# EAGLE library part 382580-1 (library con-amp_edit)
SOCKET SIMM II CL DUAL READOUT Source: ENG_CD_382580_E.pdf
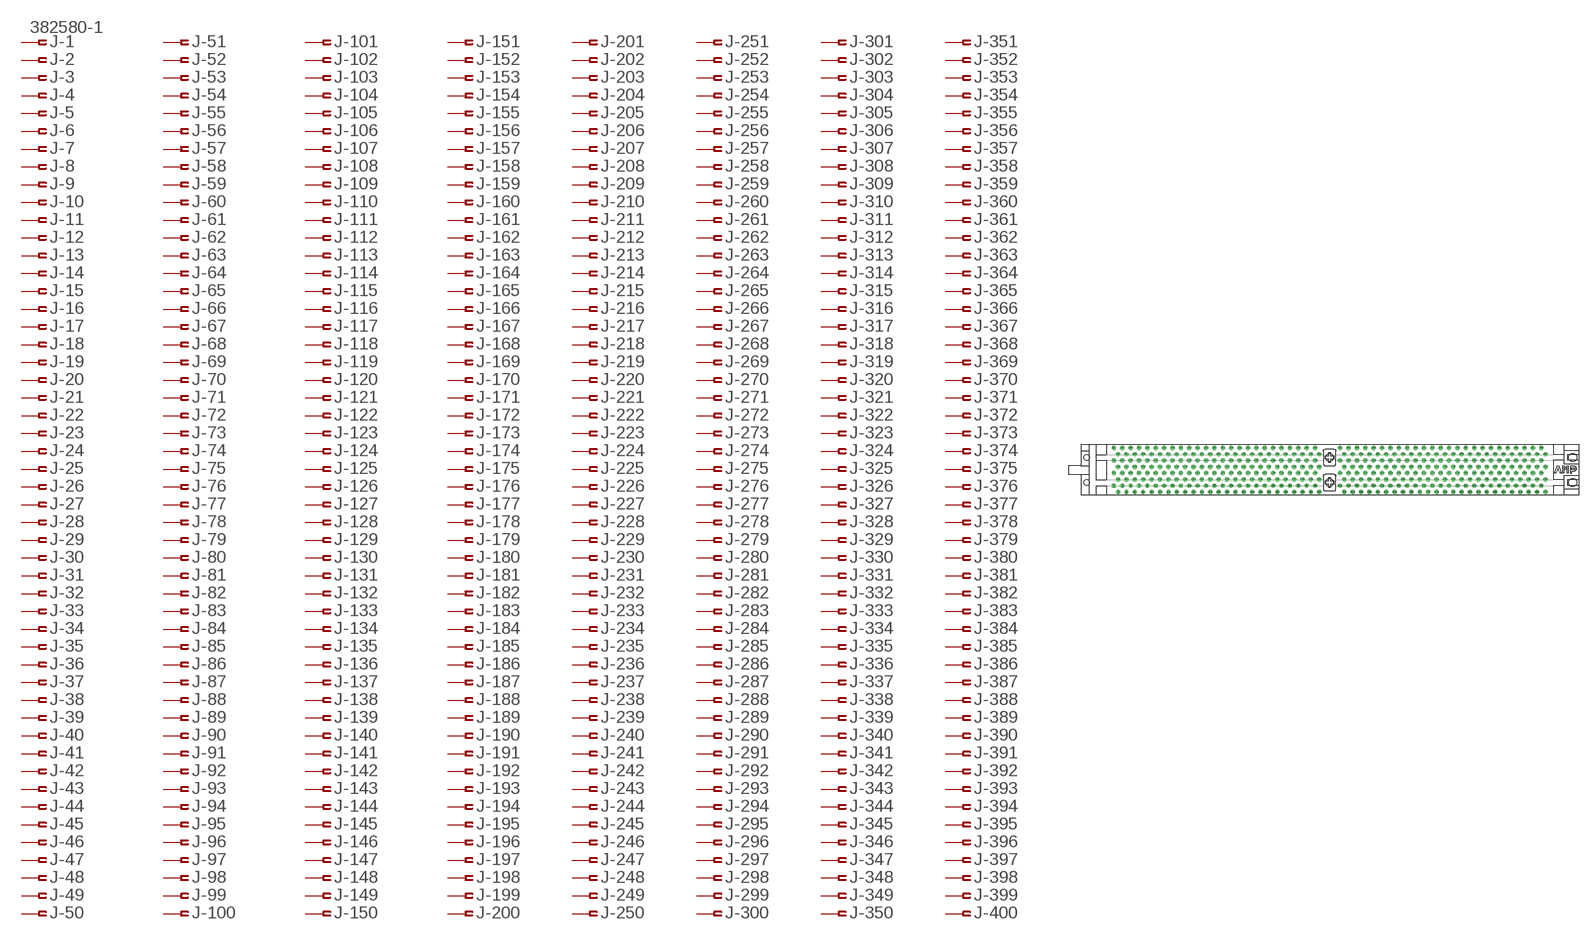
[diagram p175: symbol with the pads of 382580-1; footprint 382580-1]

Designator prefix J; gates -1=PIN-FV -2=PIN-F -3=PIN-F -4=PIN-F -5=PIN-F -6=PIN-F -7=PIN-F -8=PIN-F -9=PIN-F -10=PIN-F -11=PIN-F -12=PIN-F -13=PIN-F -14=PIN-F -15=PIN-F -16=PIN-F -17=PIN-F -18=PIN-F -19=PIN-F -20=PIN-F -21=PIN-F -22=PIN-F -23=PIN-F -24=PIN-F -25=PIN-F -26=PIN-F -27=PIN-F -28=PIN-F -29=PIN-F -30=PIN-F -31=PIN-F -32=PIN-F -33=PIN-F -34=PIN-F -35=PIN-F -36=PIN-F -37=PIN-F -38=PIN-F -39=PIN-F -40=PIN-F -41=PIN-F -42=PIN-F -43=PIN-F -44=PIN-F -45=PIN-F -46=PIN-F -47=PIN-F -48=PIN-F -49=PIN-F -50=PIN-F -51=PIN-F -52=PIN-F -53=PIN-F -54=PIN-F -55=PIN-F -56=PIN-F -57=PIN-F -58=PIN-F -59=PIN-F -60=PIN-F -61=PIN-F -62=PIN-F -63=PIN-F -64=PIN-F -65=PIN-F -66=PIN-F -67=PIN-F -68=PIN-F -69=PIN-F -70=PIN-F -71=PIN-F -72=PIN-F -73=PIN-F -74=PIN-F -75=PIN-F -76=PIN-F -77=PIN-F -78=PIN-F -79=PIN-F -80=PIN-F -81=PIN-F -82=PIN-F -83=PIN-F -84=PIN-F -85=PIN-F -86=PIN-F -87=PIN-F -88=PIN-F -89=PIN-F -90=PIN-F -91=PIN-F -92=PIN-F -93=PIN-F -94=PIN-F -95=PIN-F -96=PIN-F -97=PIN-F -98=PIN-F -99=PIN-F -100=PIN-F -101=PIN-F -102=PIN-F -103=PIN-F -104=PIN-F -105=PIN-F -106=PIN-F -107=PIN-F -108=PIN-F -109=PIN-F -110=PIN-F -111=PIN-F -112=PIN-F -113=PIN-F -114=PIN-F -115=PIN-F -116=PIN-F -117=PIN-F -118=PIN-F -119=PIN-F -120=PIN-F -121=PIN-F -122=PIN-F -123=PIN-F -124=PIN-F -125=PIN-F -126=PIN-F -127=PIN-F -128=PIN-F -129=PIN-F -130=PIN-F -131=PIN-F -132=PIN-F -133=PIN-F -134=PIN-F -135=PIN-F -136=PIN-F -137=PIN-F -138=PIN-F -139=PIN-F -140=PIN-F -141=PIN-F -142=PIN-F -143=PIN-F -144=PIN-F -145=PIN-F -146=PIN-F -147=PIN-F -148=PIN-F -149=PIN-F -150=PIN-F -151=PIN-F -152=PIN-F -153=PIN-F -154=PIN-F -155=PIN-F -156=PIN-F -157=PIN-F -158=PIN-F -159=PIN-F -160=PIN-F -161=PIN-F -162=PIN-F -163=PIN-F -164=PIN-F -165=PIN-F -166=PIN-F -167=PIN-F -168=PIN-F -169=PIN-F -170=PIN-F -171=PIN-F -172=PIN-F -173=PIN-F -174=PIN-F -175=PIN-F -176=PIN-F -177=PIN-F -178=PIN-F -179=PIN-F -180=PIN-F -181=PIN-F -182=PIN-F -183=PIN-F -184=PIN-F -185=PIN-F -186=PIN-F -187=PIN-F -188=PIN-F -189=PIN-F -190=PIN-F -191=PIN-F -192=PIN-F -193=PIN-F -194=PIN-F -195=PIN-F -196=PIN-F -197=PIN-F -198=PIN-F -199=PIN-F -200=PIN-F -201=PIN-F -202=PIN-F -203=PIN-F -204=PIN-F -205=PIN-F -206=PIN-F -207=PIN-F -208=PIN-F -209=PIN-F -210=PIN-F -211=PIN-F -212=PIN-F -213=PIN-F -214=PIN-F -215=PIN-F -216=PIN-F -217=PIN-F -218=PIN-F -219=PIN-F -220=PIN-F -221=PIN-F -222=PIN-F -223=PIN-F -224=PIN-F -225=PIN-F -226=PIN-F -227=PIN-F -228=PIN-F -229=PIN-F -230=PIN-F -231=PIN-F -232=PIN-F -233=PIN-F -234=PIN-F -235=PIN-F -236=PIN-F -237=PIN-F -238=PIN-F -239=PIN-F -240=PIN-F -241=PIN-F -242=PIN-F -243=PIN-F -244=PIN-F -245=PIN-F -246=PIN-F -247=PIN-F -248=PIN-F -249=PIN-F -250=PIN-F -251=PIN-F -252=PIN-F -253=PIN-F -254=PIN-F -255=PIN-F -256=PIN-F -257=PIN-F -258=PIN-F -259=PIN-F -260=PIN-F -261=PIN-F -262=PIN-F -263=PIN-F -264=PIN-F -265=PIN-F -266=PIN-F -267=PIN-F -268=PIN-F -269=PIN-F -270=PIN-F -271=PIN-F -272=PIN-F -273=PIN-F -274=PIN-F -275=PIN-F -276=PIN-F -277=PIN-F -278=PIN-F -279=PIN-F -280=PIN-F -281=PIN-F -282=PIN-F -283=PIN-F -284=PIN-F -285=PIN-F -286=PIN-F -287=PIN-F -288=PIN-F -289=PIN-F -290=PIN-F -291=PIN-F -292=PIN-F -293=PIN-F -294=PIN-F -295=PIN-F -296=PIN-F -297=PIN-F -298=PIN-F -299=PIN-F -300=PIN-F -301=PIN-F -302=PIN-F -303=PIN-F -304=PIN-F -305=PIN-F -306=PIN-F -307=PIN-F -308=PIN-F -309=PIN-F -310=PIN-F -311=PIN-F -312=PIN-F -313=PIN-F -314=PIN-F -315=PIN-F -316=PIN-F -317=PIN-F -318=PIN-F -319=PIN-F -320=PIN-F -321=PIN-F -322=PIN-F -323=PIN-F -324=PIN-F -325=PIN-F -326=PIN-F -327=PIN-F -328=PIN-F -329=PIN-F -330=PIN-F -331=PIN-F -332=PIN-F -333=PIN-F -334=PIN-F -335=PIN-F -336=PIN-F -337=PIN-F -338=PIN-F -339=PIN-F -340=PIN-F -341=PIN-F -342=PIN-F -343=PIN-F -344=PIN-F -345=PIN-F -346=PIN-F -347=PIN-F -348=PIN-F -349=PIN-F -350=PIN-F -351=PIN-F -352=PIN-F -353=PIN-F -354=PIN-F -355=PIN-F -356=PIN-F -357=PIN-F -358=PIN-F -359=PIN-F -360=PIN-F -361=PIN-F -362=PIN-F -363=PIN-F -364=PIN-F -365=PIN-F -366=PIN-F -367=PIN-F -368=PIN-F -369=PIN-F -370=PIN-F -371=PIN-F -372=PIN-F -373=PIN-F -374=PIN-F -375=PIN-F -376=PIN-F -377=PIN-F -378=PIN-F -379=PIN-F -380=PIN-F -381=PIN-F -382=PIN-F -383=PIN-F -384=PIN-F -385=PIN-F -386=PIN-F -387=PIN-F -388=PIN-F -389=PIN-F -390=PIN-F -391=PIN-F -392=PIN-F -393=PIN-F -394=PIN-F -395=PIN-F -396=PIN-F -397=PIN-F -398=PIN-F -399=PIN-F -400=PIN-F

## 382580-1  [382580-1]
1  -1:1  pas
2  -2:1  pas
3  -3:1  pas
4  -4:1  pas
5  -5:1  pas
6  -6:1  pas
7  -7:1  pas
8  -8:1  pas
9  -9:1  pas
10  -10:1  pas
11  -11:1  pas
12  -12:1  pas
13  -13:1  pas
14  -14:1  pas
15  -15:1  pas
16  -16:1  pas
17  -17:1  pas
18  -18:1  pas
19  -19:1  pas
20  -20:1  pas
21  -21:1  pas
22  -22:1  pas
23  -23:1  pas
24  -24:1  pas
25  -25:1  pas
26  -26:1  pas
27  -27:1  pas
28  -28:1  pas
29  -29:1  pas
30  -30:1  pas
31  -31:1  pas
32  -32:1  pas
33  -33:1  pas
34  -34:1  pas
35  -35:1  pas
36  -36:1  pas
37  -37:1  pas
38  -38:1  pas
39  -39:1  pas
40  -40:1  pas
41  -41:1  pas
42  -42:1  pas
43  -43:1  pas
44  -44:1  pas
45  -45:1  pas
46  -46:1  pas
47  -47:1  pas
48  -48:1  pas
49  -49:1  pas
50  -50:1  pas
51  -51:1  pas
52  -52:1  pas
53  -53:1  pas
54  -54:1  pas
55  -55:1  pas
56  -56:1  pas
57  -57:1  pas
58  -58:1  pas
59  -59:1  pas
60  -60:1  pas
61  -61:1  pas
62  -62:1  pas
63  -63:1  pas
64  -64:1  pas
65  -65:1  pas
66  -66:1  pas
67  -67:1  pas
68  -68:1  pas
69  -69:1  pas
70  -70:1  pas
71  -71:1  pas
72  -72:1  pas
73  -73:1  pas
74  -74:1  pas
75  -75:1  pas
76  -76:1  pas
77  -77:1  pas
78  -78:1  pas
79  -79:1  pas
80  -80:1  pas
81  -81:1  pas
82  -82:1  pas
83  -83:1  pas
84  -84:1  pas
85  -85:1  pas
86  -86:1  pas
87  -87:1  pas
88  -88:1  pas
89  -89:1  pas
90  -90:1  pas
91  -91:1  pas
92  -92:1  pas
93  -93:1  pas
94  -94:1  pas
95  -95:1  pas
96  -96:1  pas
97  -97:1  pas
98  -98:1  pas
99  -99:1  pas
100  -100:1  pas
101  -101:1  pas
102  -102:1  pas
103  -103:1  pas
104  -104:1  pas
105  -105:1  pas
106  -106:1  pas
107  -107:1  pas
108  -108:1  pas
109  -109:1  pas
110  -110:1  pas
111  -111:1  pas
112  -112:1  pas
113  -113:1  pas
114  -114:1  pas
115  -115:1  pas
116  -116:1  pas
117  -117:1  pas
118  -118:1  pas
119  -119:1  pas
120  -120:1  pas
121  -121:1  pas
122  -122:1  pas
123  -123:1  pas
124  -124:1  pas
125  -125:1  pas
126  -126:1  pas
127  -127:1  pas
128  -128:1  pas
129  -129:1  pas
130  -130:1  pas
131  -131:1  pas
132  -132:1  pas
133  -133:1  pas
134  -134:1  pas
135  -135:1  pas
136  -136:1  pas
137  -137:1  pas
138  -138:1  pas
139  -139:1  pas
140  -140:1  pas
141  -141:1  pas
142  -142:1  pas
143  -143:1  pas
144  -144:1  pas
145  -145:1  pas
146  -146:1  pas
147  -147:1  pas
148  -148:1  pas
149  -149:1  pas
150  -150:1  pas
151  -151:1  pas
152  -152:1  pas
153  -153:1  pas
154  -154:1  pas
155  -155:1  pas
156  -156:1  pas
157  -157:1  pas
158  -158:1  pas
159  -159:1  pas
160  -160:1  pas
161  -161:1  pas
162  -162:1  pas
163  -163:1  pas
164  -164:1  pas
165  -165:1  pas
166  -166:1  pas
167  -167:1  pas
168  -168:1  pas
169  -169:1  pas
170  -170:1  pas
171  -171:1  pas
172  -172:1  pas
173  -173:1  pas
174  -174:1  pas
175  -175:1  pas
176  -176:1  pas
177  -177:1  pas
178  -178:1  pas
179  -179:1  pas
180  -180:1  pas
181  -181:1  pas
182  -182:1  pas
183  -183:1  pas
184  -184:1  pas
185  -185:1  pas
186  -186:1  pas
187  -187:1  pas
188  -188:1  pas
189  -189:1  pas
190  -190:1  pas
191  -191:1  pas
192  -192:1  pas
193  -193:1  pas
194  -194:1  pas
195  -195:1  pas
196  -196:1  pas
197  -197:1  pas
198  -198:1  pas
199  -199:1  pas
200  -200:1  pas
201  -201:1  pas
202  -202:1  pas
203  -203:1  pas
204  -204:1  pas
205  -205:1  pas
206  -206:1  pas
207  -207:1  pas
208  -208:1  pas
209  -209:1  pas
210  -210:1  pas
211  -211:1  pas
212  -212:1  pas
213  -213:1  pas
214  -214:1  pas
215  -215:1  pas
216  -216:1  pas
217  -217:1  pas
218  -218:1  pas
219  -219:1  pas
220  -220:1  pas
221  -221:1  pas
222  -222:1  pas
223  -223:1  pas
224  -224:1  pas
225  -225:1  pas
226  -226:1  pas
227  -227:1  pas
228  -228:1  pas
229  -229:1  pas
230  -230:1  pas
231  -231:1  pas
232  -232:1  pas
233  -233:1  pas
234  -234:1  pas
235  -235:1  pas
236  -236:1  pas
237  -237:1  pas
238  -238:1  pas
239  -239:1  pas
240  -240:1  pas
241  -241:1  pas
242  -242:1  pas
243  -243:1  pas
244  -244:1  pas
245  -245:1  pas
246  -246:1  pas
247  -247:1  pas
248  -248:1  pas
249  -249:1  pas
250  -250:1  pas
251  -251:1  pas
252  -252:1  pas
253  -253:1  pas
254  -254:1  pas
255  -255:1  pas
256  -256:1  pas
257  -257:1  pas
258  -258:1  pas
259  -259:1  pas
260  -260:1  pas
261  -261:1  pas
262  -262:1  pas
263  -263:1  pas
264  -264:1  pas
265  -265:1  pas
266  -266:1  pas
267  -267:1  pas
268  -268:1  pas
269  -269:1  pas
270  -270:1  pas
271  -271:1  pas
272  -272:1  pas
273  -273:1  pas
274  -274:1  pas
275  -275:1  pas
276  -276:1  pas
277  -277:1  pas
278  -278:1  pas
279  -279:1  pas
280  -280:1  pas
281  -281:1  pas
282  -282:1  pas
283  -283:1  pas
284  -284:1  pas
285  -285:1  pas
286  -286:1  pas
287  -287:1  pas
288  -288:1  pas
289  -289:1  pas
290  -290:1  pas
291  -291:1  pas
292  -292:1  pas
293  -293:1  pas
294  -294:1  pas
295  -295:1  pas
296  -296:1  pas
297  -297:1  pas
298  -298:1  pas
299  -299:1  pas
300  -300:1  pas
301  -301:1  pas
302  -302:1  pas
303  -303:1  pas
304  -304:1  pas
305  -305:1  pas
306  -306:1  pas
307  -307:1  pas
308  -308:1  pas
309  -309:1  pas
310  -310:1  pas
311  -311:1  pas
312  -312:1  pas
313  -313:1  pas
314  -314:1  pas
315  -315:1  pas
316  -316:1  pas
317  -317:1  pas
318  -318:1  pas
319  -319:1  pas
320  -320:1  pas
321  -321:1  pas
322  -322:1  pas
323  -323:1  pas
324  -324:1  pas
325  -325:1  pas
326  -326:1  pas
327  -327:1  pas
328  -328:1  pas
329  -329:1  pas
330  -330:1  pas
331  -331:1  pas
332  -332:1  pas
333  -333:1  pas
334  -334:1  pas
335  -335:1  pas
336  -336:1  pas
337  -337:1  pas
338  -338:1  pas
339  -339:1  pas
340  -340:1  pas
341  -341:1  pas
342  -342:1  pas
343  -343:1  pas
344  -344:1  pas
345  -345:1  pas
346  -346:1  pas
347  -347:1  pas
348  -348:1  pas
349  -349:1  pas
350  -350:1  pas
351  -351:1  pas
352  -352:1  pas
353  -353:1  pas
354  -354:1  pas
355  -355:1  pas
356  -356:1  pas
357  -357:1  pas
358  -358:1  pas
359  -359:1  pas
360  -360:1  pas
361  -361:1  pas
362  -362:1  pas
363  -363:1  pas
364  -364:1  pas
365  -365:1  pas
366  -366:1  pas
367  -367:1  pas
368  -368:1  pas
369  -369:1  pas
370  -370:1  pas
371  -371:1  pas
372  -372:1  pas
373  -373:1  pas
374  -374:1  pas
375  -375:1  pas
376  -376:1  pas
377  -377:1  pas
378  -378:1  pas
379  -379:1  pas
380  -380:1  pas
381  -381:1  pas
382  -382:1  pas
383  -383:1  pas
384  -384:1  pas
385  -385:1  pas
386  -386:1  pas
387  -387:1  pas
388  -388:1  pas
389  -389:1  pas
390  -390:1  pas
391  -391:1  pas
392  -392:1  pas
393  -393:1  pas
394  -394:1  pas
395  -395:1  pas
396  -396:1  pas
397  -397:1  pas
398  -398:1  pas
399  -399:1  pas
400  -400:1  pas

## Footprint 382580-1 (pad centres in mm)
DIMM I Dual Read Out
drill 0.813 square: 1 -65.405,-4.763
drill 0.813 octagon: 2 -64.135,-6.668; 3 -62.865,-4.763; 4 -61.595,-6.668; 5 -60.325,-4.763; 6 -59.055,-6.668; 7 -57.785,-4.763; 8 -56.515,-6.668; 9 -55.245,-4.763; 10 -53.975,-6.668; 11 -52.705,-4.763; 12 -51.435,-6.668; 13 -50.165,-4.763; 14 -48.895,-6.668; 15 -47.625,-4.763; 16 -46.355,-6.668; 17 -45.085,-4.763; 18 -43.815,-6.668; 19 -42.545,-4.763; 20 -41.275,-6.668; 21 -40.005,-4.763; 22 -38.735,-6.668; 23 -37.465,-4.763; 24 -36.195,-6.668; 25 -34.925,-4.763; 26 -33.655,-6.668; 27 -32.385,-4.763; 28 -31.115,-6.668; 29 -29.845,-4.763; 30 -28.575,-6.668; 31 -27.305,-4.763; 32 -26.035,-6.668; 33 -24.765,-4.763; 34 -23.495,-6.668; 35 -22.225,-4.763; 36 -20.955,-6.668; 37 -19.685,-4.763; 38 -18.415,-6.668; 39 -17.145,-4.763; 40 -15.875,-6.668; 41 -14.605,-4.763; 42 -13.335,-6.668; 43 -12.065,-4.763; 44 -10.795,-6.668; 45 -9.525,-4.763; 46 -8.255,-6.668; 47 -6.985,-4.763; 48 -5.715,-6.668; 49 -4.445,-4.763; 50 -3.175,-6.668; 51 3.175,-4.763; 52 4.445,-6.668; 53 5.715,-4.763; 54 6.985,-6.668; 55 8.255,-4.763; 56 9.525,-6.668; 57 10.795,-4.763; 58 12.065,-6.668; 59 13.335,-4.763; 60 14.605,-6.668; 61 15.875,-4.763; 62 17.145,-6.668; 63 18.415,-4.763; 64 19.685,-6.668; 65 20.955,-4.763; 66 22.225,-6.668; 67 23.495,-4.763; 68 24.765,-6.668; 69 26.035,-4.763; 70 27.305,-6.668; 71 28.575,-4.763; 72 29.845,-6.668; 73 31.115,-4.763; 74 32.385,-6.668; 75 33.655,-4.763; 76 34.925,-6.668; 77 36.195,-4.763; 78 37.465,-6.668; 79 38.735,-4.763; 80 40.005,-6.668; 81 41.275,-4.763; 82 42.545,-6.668; 83 43.815,-4.763; 84 45.085,-6.668; 85 46.355,-4.763; 86 47.625,-6.668; 87 48.895,-4.763; 88 50.165,-6.668; 89 51.435,-4.763; 90 52.705,-6.668; 91 53.975,-4.763; 92 55.245,-6.668; 93 56.515,-4.763; 94 57.785,-6.668; 95 59.055,-4.763; 96 60.325,-6.668; 97 61.595,-4.763; 98 62.865,-6.668; 99 64.135,-4.763; 100 65.405,-6.668; 101 -65.405,-0.953; 102 -64.135,-2.857; 103 -62.865,-0.953; 104 -61.595,-2.857; 105 -60.325,-0.953; 106 -59.055,-2.857; 107 -57.785,-0.953; 108 -56.515,-2.857; 109 -55.245,-0.953; 110 -53.975,-2.857; 111 -52.705,-0.953; 112 -51.435,-2.857; 113 -50.165,-0.953; 114 -48.895,-2.857; 115 -47.625,-0.953; 116 -46.355,-2.857; 117 -45.085,-0.953; 118 -43.815,-2.857; 119 -42.545,-0.953; 120 -41.275,-2.857; 121 -40.005,-0.953; 122 -38.735,-2.857; 123 -37.465,-0.953; 124 -36.195,-2.857; 125 -34.925,-0.953; 126 -33.655,-2.857; 127 -32.385,-0.953; 128 -31.115,-2.857; 129 -29.845,-0.953; 130 -28.575,-2.857; 131 -27.305,-0.953; 132 -26.035,-2.857; 133 -24.765,-0.953; 134 -23.495,-2.857; 135 -22.225,-0.953; 136 -20.955,-2.857; 137 -19.685,-0.953; 138 -18.415,-2.857; 139 -17.145,-0.953; 140 -15.875,-2.857; 141 -14.605,-0.953; 142 -13.335,-2.857; 143 -12.065,-0.953; 144 -10.795,-2.857; 145 -9.525,-0.953; 146 -8.255,-2.857; 147 -6.985,-0.953; 148 -5.715,-2.857; 149 -4.445,-0.953; 150 -3.175,-2.857; 151 3.175,-0.953; 152 4.445,-2.857; 153 5.715,-0.953; 154 6.985,-2.857; 155 8.255,-0.953; 156 9.525,-2.857; 157 10.795,-0.953; 158 12.065,-2.857; 159 13.335,-0.953; 160 14.605,-2.857; 161 15.875,-0.953; 162 17.145,-2.857; 163 18.415,-0.953; 164 19.685,-2.857; 165 20.955,-0.953; 166 22.225,-2.857; 167 23.495,-0.953; 168 24.765,-2.857; 169 26.035,-0.953; 170 27.305,-2.857; 171 28.575,-0.953; 172 29.845,-2.857; 173 31.115,-0.953; 174 32.385,-2.857; 175 33.655,-0.953; 176 34.925,-2.857; 177 36.195,-0.953; 178 37.465,-2.857; 179 38.735,-0.953; 180 40.005,-2.857; 181 41.275,-0.953; 182 42.545,-2.857; 183 43.815,-0.953; 184 45.085,-2.857; 185 46.355,-0.953; 186 47.625,-2.857; 187 48.895,-0.953; 188 50.165,-2.857; 189 51.435,-0.953; 190 52.705,-2.857; 191 53.975,-0.953; 192 55.245,-2.857; 193 56.515,-0.953; 194 57.785,-2.857; 195 59.055,-0.953; 196 60.325,-2.857; 197 61.595,-0.953; 198 62.865,-2.857; 199 64.135,-0.953; 200 65.405,-2.857; 201 -65.405,2.857; 202 -64.135,0.953; 203 -62.865,2.857; 204 -61.595,0.953; 205 -60.325,2.857; 206 -59.055,0.953; 207 -57.785,2.857; 208 -56.515,0.953; 209 -55.245,2.857; 210 -53.975,0.953; 211 -52.705,2.857; 212 -51.435,0.953; 213 -50.165,2.857; 214 -48.895,0.953; 215 -47.625,2.857; 216 -46.355,0.953; 217 -45.085,2.857; 218 -43.815,0.953; 219 -42.545,2.857; 220 -41.275,0.953; 221 -40.005,2.857; 222 -38.735,0.953; 223 -37.465,2.857; 224 -36.195,0.953; 225 -34.925,2.857; 226 -33.655,0.953; 227 -32.385,2.857; 228 -31.115,0.953; 229 -29.845,2.857; 230 -28.575,0.953; 231 -27.305,2.857; 232 -26.035,0.953; 233 -24.765,2.857; 234 -23.495,0.953; 235 -22.225,2.857; 236 -20.955,0.953; 237 -19.685,2.857; 238 -18.415,0.953; 239 -17.145,2.857; 240 -15.875,0.953; 241 -14.605,2.857; 242 -13.335,0.953; 243 -12.065,2.857; 244 -10.795,0.953; 245 -9.525,2.857; 246 -8.255,0.953; 247 -6.985,2.857; 248 -5.715,0.953; 249 -4.445,2.857; 250 -3.175,0.953; 251 3.175,2.857; 252 4.445,0.953; 253 5.715,2.857; 254 6.985,0.953; 255 8.255,2.857; 256 9.525,0.953; 257 10.795,2.857; 258 12.065,0.953; 259 13.335,2.857; 260 14.605,0.953; 261 15.875,2.857; 262 17.145,0.953; 263 18.415,2.857; 264 19.685,0.953; 265 20.955,2.857; 266 22.225,0.953; 267 23.495,2.857; 268 24.765,0.953; 269 26.035,2.857; 270 27.305,0.953; 271 28.575,2.857; 272 29.845,0.953; 273 31.115,2.857; 274 32.385,0.953; 275 33.655,2.857; 276 34.925,0.953; 277 36.195,2.857; 278 37.465,0.953; 279 38.735,2.857; 280 40.005,0.953; 281 41.275,2.857; 282 42.545,0.953; 283 43.815,2.857; 284 45.085,0.953; 285 46.355,2.857; 286 47.625,0.953; 287 48.895,2.857; 288 50.165,0.953; 289 51.435,2.857; 290 52.705,0.953; 291 53.975,2.857; 292 55.245,0.953; 293 56.515,2.857; 294 57.785,0.953; 295 59.055,2.857; 296 60.325,0.953; 297 61.595,2.857; 298 62.865,0.953; 299 64.135,2.857; 300 65.405,0.953; 301 -65.405,6.668; 302 -64.135,4.763; 303 -62.865,6.668; 304 -61.595,4.763; 305 -60.325,6.668; 306 -59.055,4.763; 307 -57.785,6.668; 308 -56.515,4.763; 309 -55.245,6.668; 310 -53.975,4.763; 311 -52.705,6.668; 312 -51.435,4.763; 313 -50.165,6.668; 314 -48.895,4.763; 315 -47.625,6.668; 316 -46.355,4.763; 317 -45.085,6.668; 318 -43.815,4.763; 319 -42.545,6.668; 320 -41.275,4.763; 321 -40.005,6.668; 322 -38.735,4.763; 323 -37.465,6.668; 324 -36.195,4.763; 325 -34.925,6.668; 326 -33.655,4.763; 327 -32.385,6.668; 328 -31.115,4.763; 329 -29.845,6.668; 330 -28.575,4.763; 331 -27.305,6.668; 332 -26.035,4.763; 333 -24.765,6.668; 334 -23.495,4.763; 335 -22.225,6.668; 336 -20.955,4.763; 337 -19.685,6.668; 338 -18.415,4.763; 339 -17.145,6.668; 340 -15.875,4.763; 341 -14.605,6.668; 342 -13.335,4.763; 343 -12.065,6.668; 344 -10.795,4.763; 345 -9.525,6.668; 346 -8.255,4.763; 347 -6.985,6.668; 348 -5.715,4.763; 349 -4.445,6.668; 350 -3.175,4.763; 351 3.175,6.668; 352 4.445,4.763; 353 5.715,6.668; 354 6.985,4.763; 355 8.255,6.668; 356 9.525,4.763; 357 10.795,6.668; 358 12.065,4.763; 359 13.335,6.668; 360 14.605,4.763; 361 15.875,6.668; 362 17.145,4.763; 363 18.415,6.668; 364 19.685,4.763; 365 20.955,6.668; 366 22.225,4.763; 367 23.495,6.668; 368 24.765,4.763; 369 26.035,6.668; 370 27.305,4.763; 371 28.575,6.668; 372 29.845,4.763; 373 31.115,6.668; 374 32.385,4.763; 375 33.655,6.668; 376 34.925,4.763; 377 36.195,6.668; 378 37.465,4.763; 379 38.735,6.668; 380 40.005,4.763; 381 41.275,6.668; 382 42.545,4.763; 383 43.815,6.668; 384 45.085,4.763; 385 46.355,6.668; 386 47.625,4.763; 387 48.895,6.668; 388 50.165,4.763; 389 51.435,6.668; 390 52.705,4.763; 391 53.975,6.668; 392 55.245,4.763; 393 56.515,6.668; 394 57.785,4.763; 395 59.055,6.668; 396 60.325,4.763; 397 61.595,6.668; 398 62.865,4.763; 399 64.135,6.668; 400 65.405,4.763
hole 1.575 at -73.66,-3.81
hole 2.362 at 0,-3.81
hole 2.362 at 73.66,-3.81
hole 1.575 at -73.66,3.81
hole 2.362 at 0,3.81
hole 2.362 at 73.66,3.81